# Altium footprint library Tomra_Altium_Footprints.PcbLib: 43 footprints (part 1 of 3)
Each footprint in its own frame and in the unit in brackets; x right, y up, seen from the top. Pads: shape width x height; smd on the part's side, far side on the other; paste and mask are expansions set on the pad; w line width, h text height; cw(c..) or ccw(c..) is an arc to the next point about the centre after c.
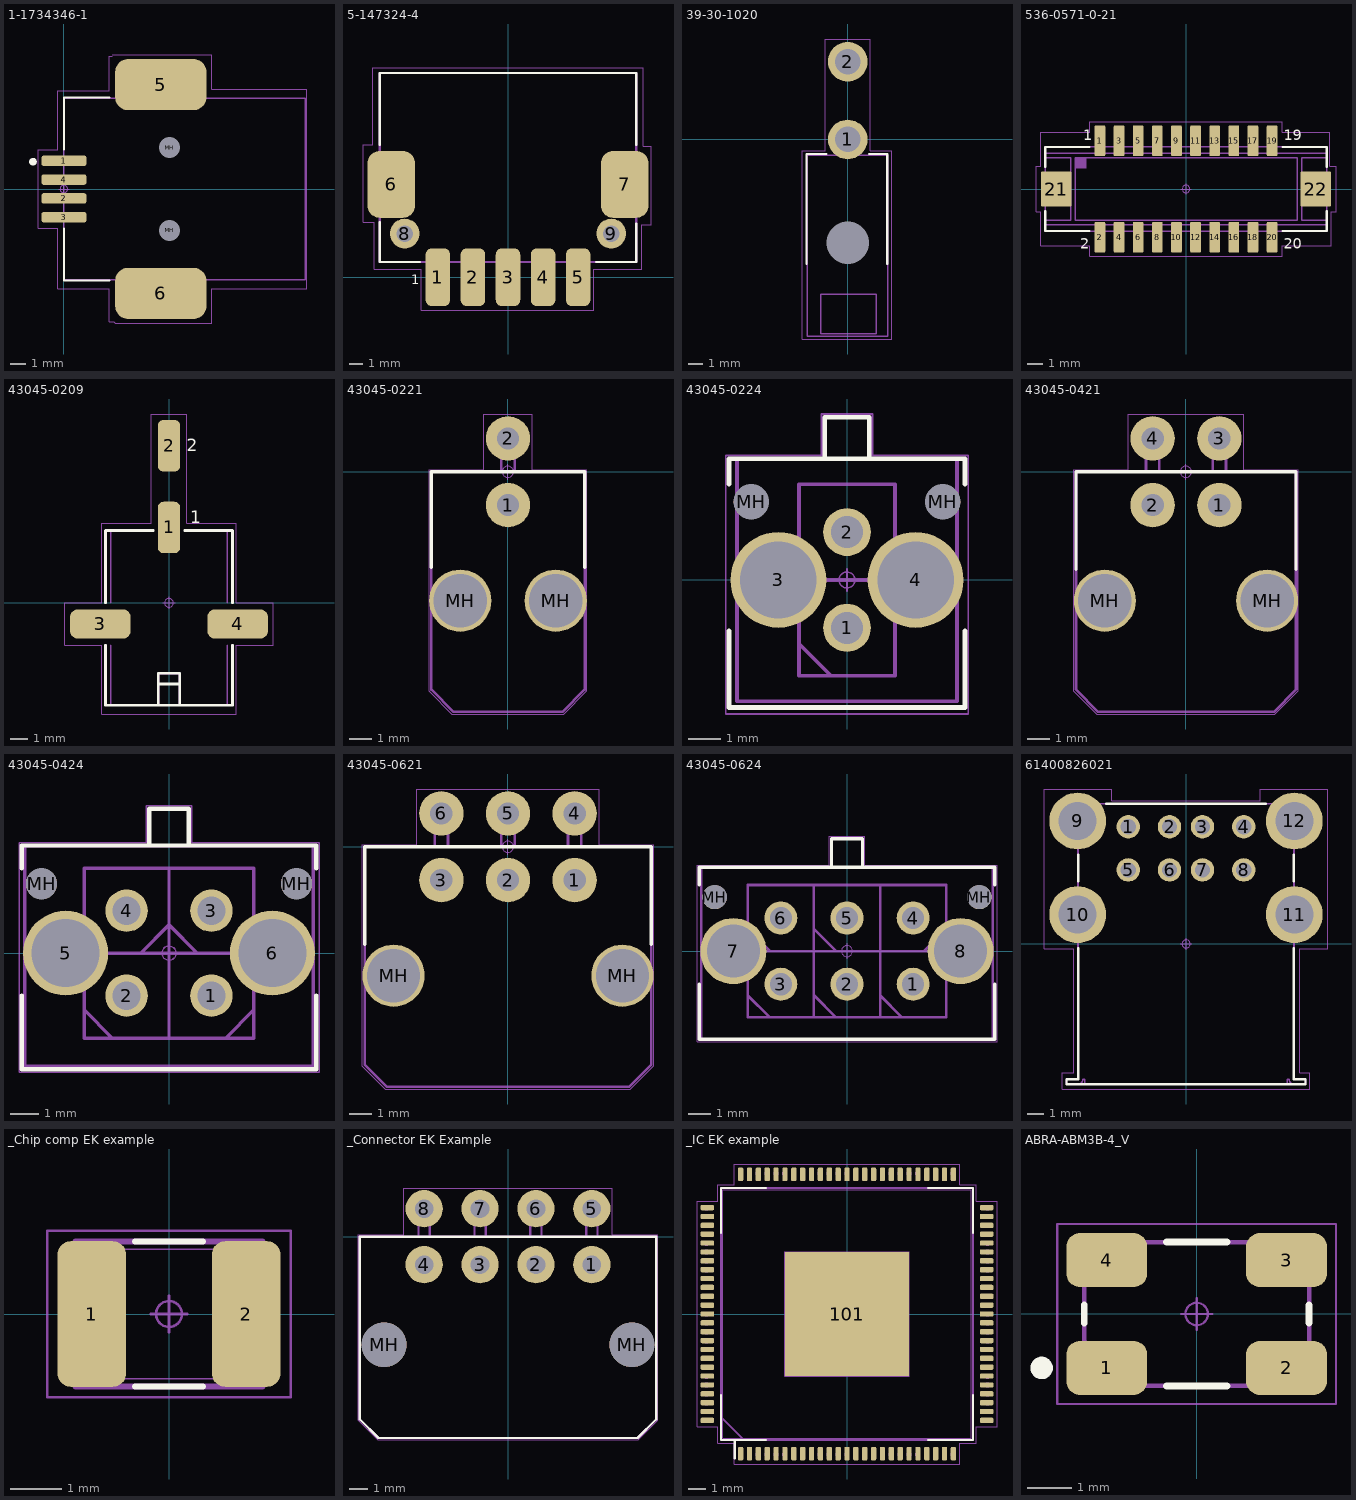
[diagram p0: the footprints below, top view; thin cyan lines are the x and y axes]

## 1-1734346-1 [mm] "SMD, 4-Leads, Body 12.04x16mm, Height 10.87 mm"
height 10.87
pads (8):
  rrect50% 3x0.7 smd: 1(0,1.87) 2(0,-0.62) 3(0,-1.87) 4(0,0.62)
  rrect50% 6.04x3.4 smd: 5(6.42,6.92) 6(6.42,-6.92)
  round 0.6 hole 1.4 unplated: MH(7,-2.75) MH(7,2.75)
Top Overlay:
  circle w0.25: c-2.05,1.808 r0.125
  lines w0.15: 0,-2.62 0,-6.07 3,-6.07 ; 0,2.62 0,6.07 3,6.07
Mechanical 13:
  rectangle: 3.9,-8.27 8.8,-6.02
  rectangle: 3.9,6 8.8,8.25
  rectangle: -0.6,-2.07 0,-1.67
  rectangle: -0.6,-0.82 0,-0.42
  rectangle: -0.6,0.42 0,0.82
  rectangle: -0.6,1.67 0,2.07
  lines w0.1: 0,-6.02 0,6.02 16,6.02 16,-6.02 0,-6.02
  text ".Designator" at 5,0 h1.5
Mechanical 15:
  circle w0.05: c0,0 r0.25
  lines w0.05: -0.35,0 0.35,0 ; -0.1,-6.6 3,-6.6 3,-8.8 3.3,-8.8 3.4,-8.9 9.8,-8.9 9.8,-6.6 16.1,-6.6 16.1,6.6 9.8,6.6 9.8,8.9 3.2,8.9 ; 0,-6.6 -0.4,-6.6 -0.4,-2.6 -1.7,-2.6 -1.7,2.6 -0.4,2.6 -0.4,6.5 3,6.5 3,8.8 3.2,8.8 ; 0,-0.35 0,0.35
  text "Board Edge" at 15.4,-2.8 h0.5
3D body "c-1734346-1-c-3d.stp": height 11.3, standoff -1.12, extent -1.1,-8.25 16,8.25

## 5-147324-4 [mm] "CON MTE 5-P MALE HOR SMT"
height 5.15
pads (9):
  rrect50% 1.78x4.19 smd: 1(-5.08,0) 2(-2.54,0) 3(0,0) 4(2.54,0) 5(5.08,0)
  rrect50% 3.45x4.83 smd: 6(-8.46,6.73) 7(8.46,6.73)
  round 2.16 hole 1.19: 8(-7.49,3.17) 9(7.49,3.17)
Top Overlay:
  lines w0.15: -9.3,4 -9.3,1.1 -6.4,1.1 ; -9.3,9.6 -9.3,14.8 9.3,14.8 9.3,9.6 ; 6.4,1.1 9.3,1.1 9.3,3.9
  text "1" at -7,-0.5 h0.7
Mechanical 13:
  circle w0.65: c7.49,3.17 r0.27
  circle w0.65: c-7.49,3.17 r0.27
  rectangle: -9.845,5.205 -9.195,8.255
  rectangle: 9.255,5.205 9.905,8.255
  rectangle: 4.755,-1.9 5.405,1.15
  rectangle: 2.215,-1.9 2.865,1.15
  rectangle: -0.325,-1.9 0.325,1.15
  rectangle: -2.865,-1.9 -2.215,1.15
  rectangle: -5.405,-1.9 -4.755,1.15
  lines w0.15: -9.3,1.1 9.3,1.1 9.3,14.8 -9.3,14.8 -9.3,1.1
  text "1" at -6.95,-0.55 h0.7
  text ".Designator" at -3.5,6.3 h1.5
Mechanical 15:
  circle w0.05: c0,0 r0.25
  lines w0.05: -0.35,0 0.35,0 ; 0,-0.35 0,0.35 ; -10.5,4 -10.5,7.8 -10.5,9.6 -9.8,9.6 -9.8,15.2 9.8,15.2 9.8,9.5 10.4,9.5 10.4,3.8 9.7,3.8 9.7,0.6 6.2,0.6 6.2,-2.4 -6.3,-2.4 -6.3,0.6 -9.7,0.6 -9.7,4 -10.5,4
3D body "c-5-147324-4-m-3d.stp": height 7.01, standoff -1.25, extent -9.3,-1.84 9.3,14.8

## 39-30-1020 [mm] "CON MINI-FIT 2-P MALE HOR THM"
height 10
pads (3):
  round 2.8 / inner round 1.524 / far side round 2.8 hole 1.8 paste+0 mask+0: 1(0,0) 2(0,5.5)
  round 0 / inner round 1.524 / far side round 0 hole 3 unplated paste+0 mask+0: MH(0,-7.3)
Top Overlay:
  lines w0.15: -2.921,-8.8 -2.921,-1.016 -1.5,-1.016 ; 1.5,-1.016 2.794,-1.016 2.794,-8.8
Mechanical 13:
  lines w0.1: 2.032,-13.716 2.032,-10.922 ; 2.032,-13.716 2.032,-10.922 ; 2.032,-13.716 -1.905,-13.716 -1.905,-10.922 2.032,-10.922 ; -2.845,-13.894 2.845,-13.894 2.845,-1.1 -2.845,-1.1 -2.845,-13.894
  text ".Designator" at -3.35,-4.4 h1.5
Mechanical 15:
  circle w0.05: c0,0 r0.25
  lines w0.05: -0.35,0 0.35,0 ; 0,-0.35 0,0.35 ; -3.2,-14.1 -3.2,-0.8 -1.6,-0.8 -1.6,7.1 1.6,7.1 1.6,-0.8 3.1,-0.8 3.1,-14.1 -3.2,-14.1
3D body "39301020.stp": height 11.4, standoff -3.6, extent -2.7,-13.867 3.1,6.067

## 536-0571-0-21 [mm] "CON HIROSE DF13A 20-P MALE SMD"
height 4.8
pads (22):
  rrect21% 0.7x2 smd paste+0 mask+0.1: 1(-5.625,3.15) 2(-5.625,-3.15) 3(-4.375,3.15) 4(-4.375,-3.15) 5(-3.125,3.15) 6(-3.125,-3.15) 7(-1.875,3.15) 8(-1.875,-3.15) 9(-0.625,3.15) 10(-0.625,-3.15) 11(0.625,3.15) 12(0.625,-3.15) 13(1.875,3.15) 14(1.875,-3.15) 15(3.125,3.15) 16(3.125,-3.15) 17(4.375,3.15) 18(4.375,-3.15) 19(5.625,3.15) 20(5.625,-3.15)
  rrect10% 2x2.3 smd paste+0 mask+0.1: 21(-8.475,0) 22(8.475,0)
Top Overlay:
  lines w0.15: -9.2,-1.45 -9.2,-2.75 -6.325,-2.75 ; -9.2,1.45 -9.2,2.75 -6.325,2.75 ; 6.3,-2.75 9.2,-2.75 9.2,-1.45 ; 6.3,2.75 9.2,2.75 9.2,1.45
  text "19" at 6.4,3.2 h0.7
  text "20" at 6.4,-3.9 h0.7
  text "2" at -6.9,-3.9 h0.7
  text "1" at -6.7,3.2 h0.7
Mechanical 13:
  circle w0.05: c0,0 r0.25
  region: -7.225,1.35 -6.525,1.35 -6.525,2.05 -7.225,2.05
  lines w0.05: -0.35,0 0.35,0 ; 0,-0.35 0,0.35
  lines w0.1: -9.2,-2.75 -9.2,2.75 9.2,2.75 9.2,-2.75 -9.2,-2.75 ; -9.2,-2.35 -9.2,-2.05 -7.525,-2.05 -7.525,2.05 -9.2,2.05 -9.2,2.35 9.2,2.35 9.2,2.05 7.575,2.05 7.575,-2.05 9.2,-2.05 9.2,-2.35 -9.2,-2.35 ; -7.225,-2.05 -7.225,2.05 7.275,2.05 7.275,-2.05 -7.225,-2.05
  text ".Designator" at -3.4,-0.6 h1.5
  text "1" at -5.8,1 h0.7
  text "20" at 4.975,-1.95 h0.7
Mechanical 15:
  circle w0.05: c0,0 r0.25
  lines w0.05: -0.35,0 0.35,0 ; 0,-0.35 0,0.35 ; -9.8,-1.5 -9.5,-1.5 -9.5,-3.7 -6.3,-3.7 -6.3,-4.4 6.3,-4.4 6.3,-3.7 9.5,-3.7 9.5,-1.5 9.8,-1.5 9.8,1.5 9.4,1.5 9.4,3.7 6.3,3.7 6.3,4.4 -6.3,4.4 -6.3,3.7 -9.5,3.7 -9.5,1.5 -9.8,1.5 -9.8,-1.5
3D body "DF13EA-20DP-1.25V.stp": height 4.8, standoff 0, extent -9.175,-3.45 9.175,3.45

## 43045-0209 [mm] "Micro-Fit 3.0 Right-Angle Header, 3.00mm Pitch, Dual Row, 2 Circuits"
height 8
pads (4):
  rrect50% 1.27x2.92 smd: 1(0,4.27) 2(0,8.9)
  rrect50% 3.43x1.65 smd: 3(-3.885,-1.2) 4(3.885,-1.2)
Top Overlay:
  lines w0.15: -3.6,-2.4 -3.6,-5.8 3.6,-5.8 3.6,-2.4 ; -3.6,0 -3.6,4.1 -0.9,4.1 ; -0.6,-4.6 0.6,-4.6 ; 0.9,4.1 3.6,4.1 3.6,0 ; -0.6,-5.8 0.6,-5.8 0.6,-4 -0.6,-4 -0.6,-5.8
  text "1" at 1.2,4.5 h0.7
  text "2" at 1,8.6 h0.7
Mechanical 13:
  lines w0.1: -3.3,-2.4 -3.3,-5.8 3.3,-5.8 3.3,-2.4 ; -3.3,0 -3.3,4.1 -0.9,4.1 ; -0.6,-4.6 0.6,-4.6 ; 0.9,4.1 3.3,4.1 3.3,0 ; -0.6,-5.8 -0.6,-4 0.6,-4 0.6,-5.8 -0.6,-5.8
  text ".Designator" at -3.4,-0.6 h1.5
  text "2" at 1,8.6 h0.7
  text "1" at 1.2,4.5 h0.7
Mechanical 15:
  circle w0.05: c0,0 r0.25
  lines w0.05: -0.35,0 0.35,0 ; 0,-0.35 0,0.35 ; -5.9,-2.4 -5.9,0 -3.8,0 -3.8,4.5 -1,4.5 -1,10.7 1,10.7 1,4.5 3.8,4.5 3.8,0 5.9,0 5.9,-2.4 3.8,-2.4 3.8,-6.3 -3.8,-6.3 -3.8,-2.4 -5.9,-2.4
3D body "430450209.stp": height 8.83, standoff 0.06, extent -5.325,-5.805 5.325,9.595

## 43045-0221 [mm] "CON MICRO-FIT 2-P MALE HOR THM"
height 10.2
pads (4):
  round 2 hole 1: 1(0,-1.5) 2(0,1.5)
  round 2.8 hole 2.4: MH(-2.15,-5.8) MH(2.15,-5.8)
Top Overlay:
  lines w0.15: -3.45,-4.3 -3.45,0 3.45,0 3.45,-4.3
Mechanical 13:
  lines w0.12: -0.3,0 -0.3,1.5 cw(c0,1.5) 0.3,1.5 0.3,0 ; 3.45,-9.8 3.45,0 -3.45,0 -3.45,-9.8 -2.45,-10.8 2.45,-10.8 3.45,-9.8 ; 3.45,-9.8 3.45,-9.8
  text ".Designator" at -3.45,-4.1 h1.5
Mechanical 15:
  circle w0.05: c0,0 r0.25
  lines w0.05: -0.35,0 0.35,0 ; 0,-0.35 0,0.35 ; -3.55,-9.875 -2.525,-10.9 1.6,-10.9 2.5,-10.9 3.55,-9.85 3.55,-3.9 3.55,0.1 1.1,0.1 1.1,2.6 -1.1,2.6 -1.1,0.1 -3.55,0.1 -3.55,-9.875
3D body "430450221.stp": height 8.83, standoff -3.12, extent -3.6,-10.44 3.6,1.8

## 43045-0224 [mm]
height 10.2
pads (6):
  round 1.5 hole 1: 1(0,-1.5) 2(0,1.5)
  round 3 hole 2.4 unplated: 3(-2.15,0)
  round 3 hole 2.4: 4(2.15,0)
  round 1.1 hole 1.1 unplated: MH(-3,2.45) MH(3,2.45)
Top Overlay:
  lines w0.15: -3.7,-1.6 -3.7,-4 3.7,-4 3.7,-1.6 ; -3.7,3 -3.7,3.8 3.7,3.8 3.7,3 ; -0.7,3.8 -0.7,5.1 0.7,5.1 0.7,3.8
Mechanical 13:
  lines w0.12: -1.5,-2 -0.5,-3 ; -1.5,0 1.5,0 1.5,-3 ; -0.7,3.8 -0.7,5.1 0.7,5.1 0.7,3.8 ; -1.5,-3 1.5,-3 ; -1.5,-3 1.5,-3 ; -1.5,-3 -1.5,3 1.5,3 1.5,-3 ; -3.45,-3.8 3.45,-3.8 3.45,3.8 -3.45,3.8 -3.45,-3.8
  text ".Designator" at -3.4,5.5 h1.5
Mechanical 15:
  circle w0.05: c0,0 r0.25
  lines w0.05: -0.35,0 0.35,0 ; 0,-0.35 0,0.35 ; -3.8,-4.2 3.8,-4.2 3.8,3.9 0.8,3.9 0.8,5.2 -0.8,5.2 -0.8,3.9 -3.8,3.9 -3.8,-4.2
3D body "430450224.stp": height 9.95, standoff -3.14, extent -3.575,-3.94 3.575,4.83

## 43045-0421 [mm] "CON MICRO-FIT 4-P MALE HOR THM"
height 10.2
pads (6):
  round 2 hole 1: 1(1.5,-1.5) 2(-1.5,-1.5) 3(1.5,1.5) 4(-1.5,1.5)
  round 2.8 hole 2.4: MH(-3.65,-5.8) MH(3.65,-5.8)
Top Overlay:
  lines w0.15: -4.95,-4.4 -4.95,0 4.95,0 4.95,-4.4
Mechanical 13:
  lines w0.12: -1.8,0 -1.8,1.5 cw(c-1.5,1.5) -1.2,1.5 -1.2,0 ; 1.2,0 1.2,1.5 cw(c1.5,1.5) 1.8,1.5 1.8,0 ; 4.95,-9.8 4.95,0 -4.95,0 -4.95,-9.8 -3.95,-10.8 3.95,-10.8 4.95,-9.8 ; 4.95,-9.8 4.95,-9.8
  text ".Designator" at -3.525,-4 h1.5
Mechanical 15:
  circle w0.05: c0,0 r0.25
  lines w0.05: -0.35,0 0.35,0 ; 0,-0.35 0,0.35 ; -5.05,-9.875 -4.025,-10.9 3.1,-10.9 4,-10.9 5.05,-9.85 5.05,-3.9 5.05,0.1 2.6,0.1 2.6,2.6 -2.6,2.6 -2.6,0.1 -5.05,0.1 -5.05,-9.875
3D body "430450421.stp": height 8.83, standoff -3.12, extent -5.1,-10.44 5.1,1.8

## 43045-0424 [mm] "CON MICRO-FIT 4-P MALE VER CLIPS THM"
height 10.2
pads (8):
  round 1.5 hole 1: 1(1.5,-1.5) 2(-1.5,-1.5) 3(1.5,1.5) 4(-1.5,1.5)
  round 3 hole 2.4 unplated: 5(-3.65,0) 6(3.65,0)
  round 1.1 hole 1.1 unplated: MH(-4.5,2.45) MH(4.5,2.45)
Top Overlay:
  lines w0.15: -5.2,-1.5 -5.2,-4.1 5.2,-4.1 5.2,-1.5 ; -5.2,3 -5.2,3.8 5.2,3.8 5.2,3 ; -0.7,3.8 -0.7,5.1 0.7,5.1 0.7,3.8
Mechanical 13:
  lines w0.12: -3,-2 -2,-3 ; -3,0 3,0 3,-3 ; -1,0 0,1 1,0 ; -0.7,3.8 -0.7,5.1 0.7,5.1 0.7,3.8 ; 0,3 0,-3 3,-3 ; 2,-3 3,-2 ; 3,-3 3,3 -3,3 -3,-3 3,-3 ; -5.1,-4 -5.1,3.8 5.1,3.8 5.1,-4 -5.1,-4
  text ".Designator" at -3.4,5.5 h1.5
Mechanical 15:
  circle w0.05: c0,0 r0.25
  lines w0.05: -0.35,0 0.35,0 ; 0,-0.35 0,0.35 ; -5.3,-4.2 -5.3,3.9 -0.8,3.9 -0.8,5.2 0.8,5.2 0.8,3.9 5.3,3.9 5.3,-4.2 -5.3,-4.2
3D body "430450424.stp": height 9.95, standoff -3.14, extent -5.075,-3.94 5.075,4.83

## 43045-0621 [mm] "CON MICRO-FIT 6-P MALE HOR THM"
height 10.2
pads (8):
  round 2 hole 1: 1(3,-1.5) 2(0,-1.5) 3(-3,-1.5) 4(3,1.5) 5(0,1.5) 6(-3,1.5)
  round 2.8 hole 2.4: MH(-5.15,-5.8) MH(5.15,-5.8)
Top Overlay:
  lines w0.15: -6.45,-4.4 -6.45,0 6.45,0 6.45,-4.4
Mechanical 13:
  lines w0.12: -3.3,0 -3.3,1.5 cw(c-3,1.5) -2.7,1.5 -2.7,0 ; -0.3,0 -0.3,1.5 cw(c0,1.5) 0.3,1.5 0.3,0 ; 2.7,0 2.7,1.5 cw(c3,1.5) 3.3,1.5 3.3,0 ; 6.45,-9.8 6.45,-9.8 ; 6.45,-9.8 5.45,-10.8 -5.15,-10.8 -5.45,-10.8 -6.2,-10.05 -6.45,-9.8 -6.45,0 6.45,0 6.45,-9.8
  text ".Designator" at -3.4,-4.175 h1.5
Mechanical 15:
  circle w0.05: c0,0 r0.25
  lines w0.05: -0.35,0 0.35,0 ; 0,-0.35 0,0.35 ; -6.55,-9.875 -6.55,0.1 -4.1,0.1 -4.1,2.6 4.1,2.6 4.1,0.1 6.55,0.1 6.55,-3.9 6.55,-9.85 5.5,-10.9 4.6,-10.9 -5.525,-10.9 -6.55,-9.875
3D body "430450621.stp": height 8.83, standoff -3.12, extent -6.6,-10.44 6.6,1.8

## 43045-0624 [mm] "CON MICRO-FIT 6-P MALE VER CLIPS THM"
height 10.2
pads (10):
  round 1.5 hole 1: 1(3,-1.5) 2(0,-1.5) 3(-3,-1.5) 4(3,1.5) 5(0,1.5) 6(-3,1.5)
  round 3 hole 2.4: 7(-5.15,0) 8(5.15,0)
  round 1.1 hole 1.1 unplated: MH(-6,2.45) MH(6,2.45)
Top Overlay:
  lines w0.15: -6.7,-1.5 -6.7,-4 6.7,-4 6.7,-1.5 ; -6.7,3 -6.7,3.8 6.7,3.8 6.7,3 ; -0.7,3.8 -0.7,5.1 0.7,5.1 0.7,3.8
Mechanical 13:
  lines w0.12: -4.5,-2 -3.5,-3 ; -4.5,0 4.5,0 4.5,-3 ; -4.5,1 -3.5,0 ; -1.5,-3 -1.5,3 ; -1.5,-2 -0.5,-3 ; -1.5,1 -0.5,0 ; -0.7,3.8 -0.7,5.1 0.7,5.1 0.7,3.8 ; 1.5,-2 2.5,-3 ; 1.5,3 1.5,-3 4.5,-3 ; 3.5,0 4.5,1 ; 4.5,-3 4.5,3 -4.5,3 -4.5,-3 4.5,-3 ; -6.6,-4 -6.6,3.8 6.6,3.8 6.6,-4 -6.6,-4
  text ".Designator" at -3.4,5.5 h1.5
Mechanical 15:
  circle w0.05: c0,0 r0.25
  lines w0.05: -0.35,0 0.35,0 ; 0,-0.35 0,0.35 ; -6.8,-4.1 -6.8,3.9 -0.8,3.9 -0.8,5.2 0.8,5.2 0.8,3.9 6.8,3.9 6.8,-4.1 -6.8,-4.1
3D body "430450624.stp": height 9.95, standoff -3.14, extent -6.575,-3.94 6.575,4.83

## 61400826021 [mm] "USB 2.0 Type A Horizontal Dual Stacked"
height 15.34
pads (12):
  round 1.42 hole 0.92: 1(-3.5,7.11) 2(-1,7.11) 3(1,7.11) 4(3.5,7.11) 5(-3.5,4.49) 6(-1,4.49) 7(1,4.49) 8(3.5,4.49)
  round 3.45 hole 2.3: 9(-6.57,7.46) 10(-6.57,1.78) 11(6.57,1.78) 12(6.57,7.46)
Top Overlay:
  lines w0.15: -6.55,-0.25 -6.55,-8.2 -7.25,-8.2 -7.25,-8.5 -6.56,-8.5 7.25,-8.5 7.25,-8.2 6.55,-8.2 6.55,-0.25 ; -6.55,3.81 -6.55,5.4 ; -4.85,8.5 4.85,8.5 ; 6.55,3.81 6.55,5.4
Mechanical 13:
  lines w0.1: -7.25,-8.5 -6.56,-8.5 ccw(c-6.55,-8.2) -6.25,-8.2 -6.15,-8.2 -6.15,-8.5 6.15,-8.5 6.15,-8.2 6.25,-8.2 ccw(c6.55,-8.2) 6.56,-8.5 7.25,-8.5 7.25,-8.2 6.55,-8.2 6.55,8.5 -6.55,8.5 -6.55,-8.2 -7.25,-8.2 -7.25,-8.5
  text ".Designator" at -3.4,-0.6 h1.5
Mechanical 15:
  circle w0.05: c0,0 r0.25
  lines w0.05: -0.35,0 0.35,0 ; 0,-0.35 0,0.35 ; -8.6,-0.3 -8.6,5.5 -8.6,9.4 -4.5,9.4 -4.5,8.7 4.5,8.7 4.5,9.4 8.6,9.4 8.6,1.7 8.6,-0.3 6.9,-0.3 6.9,-7.8 7.5,-7.8 7.5,-8.8 -7.5,-8.8 -7.5,-7.8 -6.8,-7.8 -6.8,-0.3 -8.6,-0.3
3D body "61400826021.stp": height 15.93, standoff -3.91, extent -7.912,-8.5 7.912,8.65

## _Chip comp EK example [mm] "CAPC320X250X210L50N"
height 2.1
pads (2):
  rrect38% 1.32x2.81 smd: 1(-1.49,0) 2(1.49,0)
Top Overlay:
  lines w0.12: -0.65,-1.4 0.65,-1.4 ; -0.65,1.4 0.65,1.4
Mechanical 13:
  lines w0.12: -1.8,-1.4 1.8,-1.4 1.8,1.4 -1.8,1.4 -1.8,-1.4
  text ".Designator" at -3.302,-0.635 h1.5
Mechanical 15:
  circle w0.05: c0,0 r0.25
  lines w0.05: -0.35,0 0.35,0 ; 0,-0.35 0,0.35 ; -2.35,-1.61 2.35,-1.61 2.35,1.61 -2.35,1.61 -2.35,-1.61
Mechanical 31:
  lines w0.025: -1.6,-1.25 1.6,-1.25 ; -1.6,-1.25 -1.6,1.25 ; -1.6,-1.25 -1.6,1.25 ; -1.6,-1.25 -1.1,-1.25 -1.1,1.25 -1.6,1.25 ; -1.6,1.25 1.6,1.25 ; 1.6,-1.25 1.6,1.25 ; 1.6,-1.25 1.1,-1.25 1.1,1.25 1.6,1.25 ; 1.6,-1.25 1.6,1.25
3D body "CAPC320X250X210L50.STEP": height 2.1, standoff 0, extent -1.8,-1.4 1.8,1.4

## _Connector EK Example [mm]
height 10.2
pads (10):
  round 2 hole 1: 1(4.5,-1.5) 2(1.5,-1.5) 3(-1.5,-1.5) 4(-4.5,-1.5) 5(4.5,1.5) 6(1.5,1.5) 7(-1.5,1.5) 8(-4.5,1.5)
  round 2.4 hole 2.4 unplated: MH(-6.65,-5.8) MH(6.65,-5.8)
Top Overlay:
  lines w0.12: -7.95,-9.8 -7.95,0 7.95,0 7.95,-9.8 6.95,-10.8 -6.95,-10.8 -7.95,-9.8
Mechanical 13:
  lines w0.12: -4.8,0 -4.8,1.5 ; -4.2,0 -4.2,1.5 ccw(c-4.5,1.5) -4.8,1.5 ; -1.8,0 -1.8,1.5 cw(c-1.5,1.5) -1.2,1.5 -1.2,0 ; 1.2,0 1.2,1.5 cw(c1.5,1.5) 1.8,1.5 1.8,0 ; 4.2,0 4.2,1.5 cw(c4.5,1.5) 4.8,1.5 4.8,0 ; -7.95,-9.8 -7.95,0 7.95,0 7.95,-9.8 ; -7.95,-9.8 -7.95,-9.8 ; -7.95,-9.8 -6.95,-10.8 6.95,-10.8 7.95,-9.8 ; -4.8,1.5 -4.8,1.5 ; 7.95,-9.8 7.95,-9.8
  text ".Designator" at -3.35,-6 h1.5
Mechanical 15:
  lines w0.05: -8.05,-9.85 -7,-10.9 6.1,-10.9 7,-10.9 8.05,-9.85 8.05,-3.9 8.05,0.1 5.6,0.1 5.6,2.6 -5.6,2.6 -5.6,0.1 -8.05,0.1 -8.05,-3.9 -8.05,-9.85
3D body "430450821.stp": height 9.83, standoff -2.12, extent -8.125,-10.45 8.075,1.79

## _IC EK example [mm] "QFP101P50_1600X1600X160L14X22T700N"
height 1.6
pads (101):
  rrect53% 0.3x0.77 smd: 1(-6,-7.875) 2(-5.5,-7.875) 3(-5,-7.875) 4(-4.5,-7.875) 5(-4,-7.875) 6(-3.5,-7.875) 7(-3,-7.875) 8(-2.5,-7.875) 9(-2,-7.875) 10(-1.5,-7.875) 11(-1,-7.875) 12(-0.5,-7.875) 13(0,-7.875) 14(0.5,-7.875) 15(1,-7.875) 16(1.5,-7.875) 17(2,-7.875) 18(2.5,-7.875) 19(3,-7.875) 20(3.5,-7.875) 21(4,-7.875) 22(4.5,-7.875) 23(5,-7.875) 24(5.5,-7.875) 25(6,-7.875) 51(6,7.875) 52(5.5,7.875) 53(5,7.875) 54(4.5,7.875) 55(4,7.875) 56(3.5,7.875) 57(3,7.875) 58(2.5,7.875) 59(2,7.875) 60(1.5,7.875) 61(1,7.875) 62(0.5,7.875) 63(0,7.875) 64(-0.5,7.875) 65(-1,7.875) 66(-1.5,7.875) 67(-2,7.875) 68(-2.5,7.875) 69(-3,7.875) 70(-3.5,7.875) 71(-4,7.875) 72(-4.5,7.875) 73(-5,7.875) 74(-5.5,7.875) 75(-6,7.875)
  rrect53% 0.77x0.3 smd: 26(7.875,-6) 27(7.875,-5.5) 28(7.875,-5) 29(7.875,-4.5) 30(7.875,-4) 31(7.875,-3.5) 32(7.875,-3) 33(7.875,-2.5) 34(7.875,-2) 35(7.875,-1.5) 36(7.875,-1) 37(7.875,-0.5) 38(7.875,0) 39(7.875,0.5) 40(7.875,1) 41(7.875,1.5) 42(7.875,2) 43(7.875,2.5) 44(7.875,3) 45(7.875,3.5) 46(7.875,4) 47(7.875,4.5) 48(7.875,5) 49(7.875,5.5) 50(7.875,6) 76(-7.875,6) 77(-7.875,5.5) 78(-7.875,5) 79(-7.875,4.5) 80(-7.875,4) 81(-7.875,3.5) 82(-7.875,3) 83(-7.875,2.5) 84(-7.875,2) 85(-7.875,1.5) 86(-7.875,1) 87(-7.875,0.5) 88(-7.875,0) 89(-7.875,-0.5) 90(-7.875,-1) 91(-7.875,-1.5) 92(-7.875,-2) 93(-7.875,-2.5) 94(-7.875,-3) 95(-7.875,-3.5) 96(-7.875,-4) 97(-7.875,-4.5) 98(-7.875,-5) 99(-7.875,-5.5) 100(-7.875,-6)
  rect 7x7 smd: 101(0,0)
Top Overlay:
  lines w0.12: -7.1,-4.56 -7.1,-7.1 -4.56,-7.1 ; -7.1,4.56 -7.1,7.1 -4.56,7.1 ; -6.33,-8.14 -6.33,-7.1 ; 4.56,-7.1 7.1,-7.1 7.1,-4.56 ; 4.56,7.1 7.1,7.1 7.1,4.56
Mechanical 13:
  lines w0.12: -7.1,-5.83 -7.1,7.1 7.1,7.1 7.1,-7.1 -5.83,-7.1 -7.1,-5.83
  text ".Designator" at -3.4,-0.6 h1.5
Mechanical 15:
  circle w0.05: c0,0 r0.25
  lines w0.05: -0.35,0 0.35,0 ; 0,-0.35 0,0.35 ; -8.46,-6.35 -7.3,-6.35 -7.3,-7.3 -6.35,-7.3 -6.35,-8.46 6.35,-8.46 6.35,-7.3 7.3,-7.3 7.3,-6.35 8.46,-6.35 8.46,6.35 7.3,6.35 7.3,7.3 6.35,7.3 6.35,8.46 -6.35,8.46 -6.35,7.3 -7.3,7.3 -7.3,6.35 -8.46,6.35 -8.46,-6.35
Mechanical 31:
  drawing of 408 lines, arcs and shapes, not listed
3D body "QFP101P50_1600X1600X160L14X22T700.STEP": height 1.6, standoff 0, extent -8.1,-8.1 8.1,8.1

## ABRA-ABM3B-4_V [mm] "SMD, 4-Leads, Body 5x3.2mm"
height 1.1
pads (4):
  rrect50% 1.8x1.2 smd: 1(-2,-1.2) 2(2,-1.2) 3(2,1.2) 4(-2,1.2)
Top Overlay:
  circle w0.25: c-3.45,-1.2 r0.125
  lines w0.15: -2.5,-0.2 -2.5,0.2 ; -0.673,-1.6 0.673,-1.6 ; -0.673,1.6 0.673,1.6 ; 2.5,-0.2 2.5,0.2
Mechanical 13:
  lines w0.1: -2.5,-0.6 -1.5,-1.6 2.5,-1.6 2.5,1.6 -2.5,1.6 -2.5,-0.6
  text ".Designator" at -3.4,-0.6 h1.5
Mechanical 15:
  circle w0.05: c0,0 r0.25
  lines w0.05: -0.35,0 0.35,0 ; 0,-0.35 0,0.35 ; -3.1,-2 3.1,-2 3.1,2 -3.1,2 -3.1,-2
3D body "ABM3B.STEP": height 1.13, standoff 0.01, extent -2.5,-1.587 2.5,1.588